# EAGLE library part TMC2226 (library NikodemBartnik)
Step/Dir Drivers for Two-Phase Bipolar Stepper Motors up to 2.8A peak – StealthChop™ for Quiet Movement – UART Interface Option – Sensorless Stall Detection StallGuard4
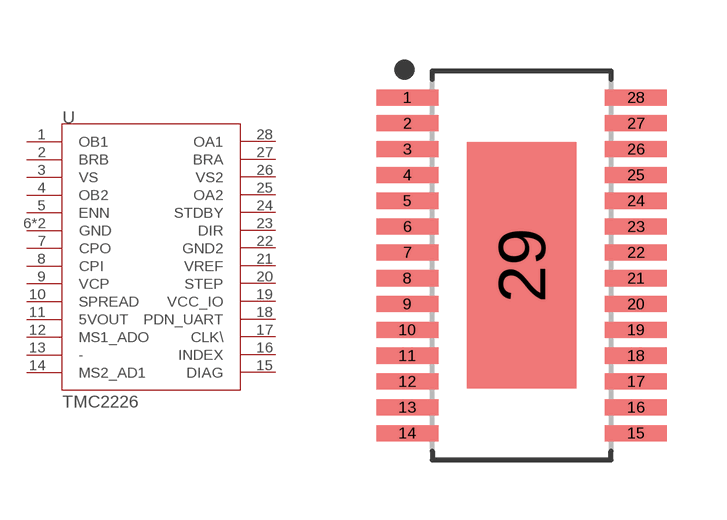
[diagram p5: symbol with the pads of SOP65P640X120-29T275X620N; footprint SOP65P640X120-29T275X620N]

Designator prefix -

## TMC2226TMC2226_HTSSOP28  [SOP65P640X120-29T275X620N]
1  OB1
2  BRB
3  VS
4  OB2
5  ENN
6  GND
7  CPO
8  CPI
9  VCP
10  SPREAD
11  5VOUT
12  MS1_ADO
13  -
14  MS2_AD1
15  DIAG
16  INDEX
17  CLK\
18  PDN_UART
19  VCC_IO
20  STEP
21  VREF
22  GND2
23  DIR
24  STDBY
25  OA2
26  VS2
27  BRA
28  OA1
29  GND

## Footprint SOP65P640X120-29T275X620N (pad centres in mm)
28-SOP, 0.65 mm pitch, 6.40 mm span, 9.70 X 4.40 X 1.20 mm body, 6.20 X 2.75 mm thermal pad 28-pin SOP package with 0.65 mm pitch, 6.40 mm span with body size 9.70 X 4.40 X 1.20 mm and thermal pad size 6.20 X 2.75 mm
smd 1.559 x 0.404: 1 -2.878,4.225; 2 -2.878,3.575; 3 -2.878,2.925; 4 -2.878,2.275; 5 -2.878,1.625; 6 -2.878,0.975; 7 -2.878,0.325; 8 -2.878,-0.325; 9 -2.878,-0.975; 10 -2.878,-1.625; 11 -2.878,-2.275; 12 -2.878,-2.925; 13 -2.878,-3.575; 14 -2.878,-4.225; 15 2.878,-4.225; 16 2.878,-3.575; 17 2.878,-2.925; 18 2.878,-2.275; 19 2.878,-1.625; 20 2.878,-0.975; 21 2.878,-0.325; 22 2.878,0.325; 23 2.878,0.975; 24 2.878,1.625; 25 2.878,2.275; 26 2.878,2.925; 27 2.878,3.575; 28 2.878,4.225
smd 2.75 x 6.2: 29 0,0